# EAGLE library part RT8250 (library dragino)
DC-DC Converter. http://www.richtek.com/download.jsp?t=UyUyRmFzc2V0cyUyRnByb2R1Y3RfZmlsZSUyRlJUODI1MCUyRkRTODI1MC0wNS5wZGYlM0QlM0Ql%0AM0REUzgyNTAtMDVD
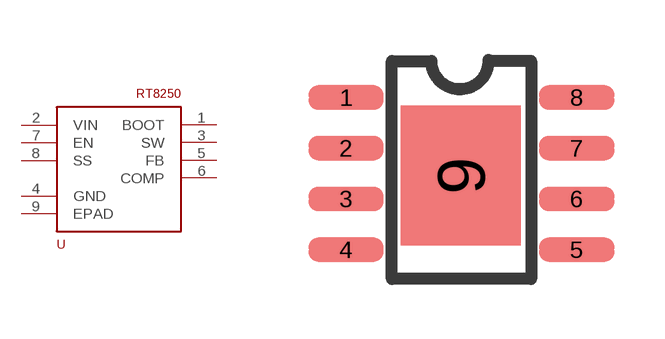
[diagram p14: symbol with the pads of RT8250-SOP8; footprint RT8250-SOP8]

Designator prefix -

## RT8250  [RT8250-SOP8]
1  BOOT
2  VIN
3  SW
4  GND
5  FB
6  COMP
7  EN
8  SS
9  EPAD

## Footprint RT8250-SOP8 (pad centres in mm)
smd 1.88 x 0.61: 1 -1.219,0; 2 -1.219,-1.27; 3 -1.219,-2.54; 4 -1.219,-3.81; 5 4.547,-3.81; 6 4.547,-2.54; 7 4.547,-1.27; 8 4.547,0
smd 2.997 x 3.505: 9 1.651,-1.956